# EAGLE library part TXS0108EPWR (library Deegou_IC)
TXS0108EPWR, Voltage Level Translator, Open Drain 1.2 3.6 V, 1.65 5.5 V 20-Pin TSSOP Source: Datasheet <http://www.ti.com/lit/ds/symlink/txs0108e.pdf>
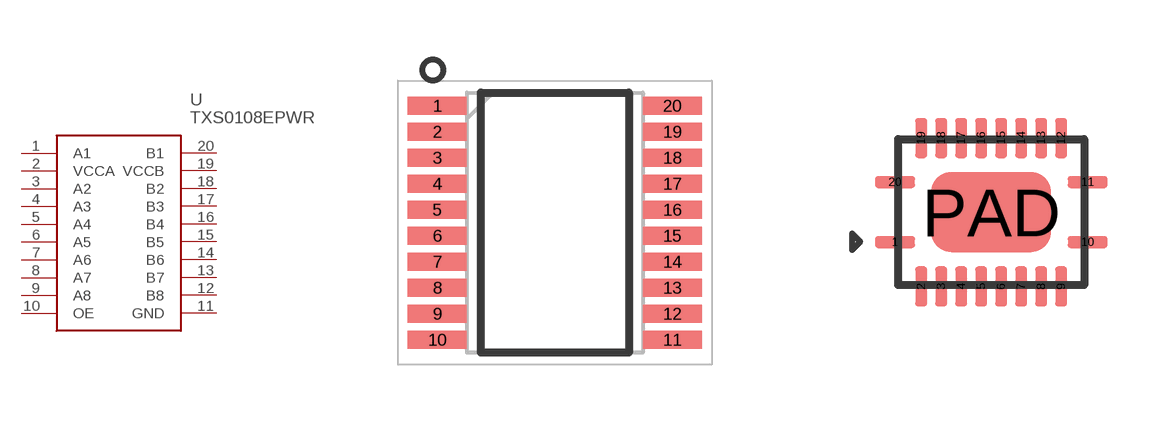
[diagram p57: symbol with the pads of SOP65P640X120-20N; footprints SOP65P640X120-20N, VQFN20]

Designator prefix U

## TXS0108EPWR (ARROW_PART_NUMBER: TXS0108EPWR; ARROW_PRICE/STOCK: https://www.arrow.com/en/products/txs0108epwr/texas-instruments; DESCRIPTION: TXS0108EPWR, Voltage Level Translator, Open Drain 1.2 3.6 V, 1.65 5.5 V 20-Pin TSSOP; HEIGHT: 1.2mm; MANUFACTURER_NAME: Texas Instruments; MANUFACTURER_PART_NUMBER: TXS0108EPWR; RS_PART_NUMBER: 9236949; RS_PRICE/STOCK: http://uk.rs-online.com/web/p/products/9236949)  [SOP65P640X120-20N]
1  A1
2  VCCA
3  A2
4  A3
5  A4
6  A5
7  A6
8  A7
9  A8
10  OE
11  GND
12  B8
13  B7
14  B6
15  B5
16  B4
17  B3
18  B2
19  VCCB
20  B1

## TXS0108EPWR-VQFN20  [VQFN20]
1  A1
2  VCCA
3  A2
4  A3
5  A4
6  A5
7  A6
8  A7
9  A8
10  OE
11  GND
12  B8
13  B7
14  B6
15  B5
16  B4
17  B3
18  B2
19  VCCB
20  B1
PAD  GND

## Footprint SOP65P640X120-20N (pad centres in mm)
PW (R-PDSO-G20)
smd 1.475 x 0.45: 1 -2.938,2.925; 2 -2.938,2.275; 3 -2.938,1.625; 4 -2.938,0.975; 5 -2.938,0.325; 6 -2.938,-0.325; 7 -2.938,-0.975; 8 -2.938,-1.625; 9 -2.938,-2.275; 10 -2.938,-2.925; 11 2.938,-2.925; 12 2.938,-2.275; 13 2.938,-1.625; 14 2.938,-0.975; 15 2.938,-0.325; 16 2.938,0.325; 17 2.938,0.975; 18 2.938,1.625; 19 2.938,2.275; 20 2.938,2.925

## Footprint VQFN20 (pad centres in mm)
smd 1 x 0.3: 1 -2.41,-0.75; 10 2.41,-0.75; 11 2.41,0.75; 20 -2.41,0.75
smd 0.3 x 1: 2 -1.75,-1.855; 3 -1.25,-1.855; 4 -0.75,-1.855; 5 -0.25,-1.855; 6 0.25,-1.855; 7 0.75,-1.855; 8 1.25,-1.855; 9 1.75,-1.855; 12 1.75,1.855; 13 1.25,1.855; 14 0.75,1.855; 15 0.25,1.855; 16 -0.25,1.855; 17 -0.75,1.855; 18 -1.25,1.855; 19 -1.75,1.855
smd 3 x 2: PAD 0,0